# EAGLE library part CY8C4024LQI-S401 (library CY8C4024LQI-S401)
32-bit Microcontrollers - MCU PSoC4 Source: Datasheet <https://www.infineon.com/assets/row/public/documents/30/49/infineon-psoc-4000s-datasheet-datasheet-en.pdf>
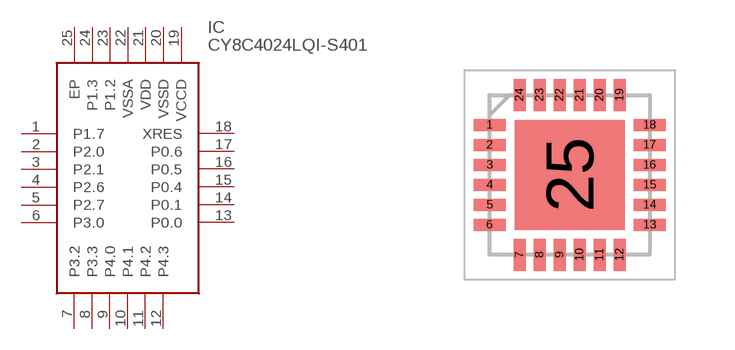
[diagram p0: symbol with the pads of QFN50P400X400X60-25N; footprint QFN50P400X400X60-25N]

Designator prefix IC

## CY8C4024LQI-S401 (Description: 32-bit Microcontrollers - MCU PSoC4; Height: 0.6mm; Manufacturer_Name: Infineon; Manufacturer_Part_Number: CY8C4024LQI-S401; Mouser_Part_Number: 727-CY8C4024LQI-S401; Mouser_Price-Stock: https://www.mouser.co.uk/ProductDetail/Infineon-Technologies/CY8C4024LQI-S401?qs=JseWDPAoSPbM3yjOOH99ZQ%3D%3D)  [QFN50P400X400X60-25N]
1  P1.7
2  P2.0
3  P2.1
4  P2.6
5  P2.7
6  P3.0
7  P3.2
8  P3.3
9  P4.0
10  P4.1
11  P4.2
12  P4.3
13  P0.0
14  P0.1
15  P0.4
16  P0.5
17  P0.6
18  XRES
19  VCCD
20  VSSD
21  VDD
22  VSSA
23  P1.2
24  P1.3
25  EP

## Footprint QFN50P400X400X60-25N (pad centres in mm)
24-pin QFN ((4 × 4 × 0.60 mm) 2.65 × 2.65 E-Pad (Sawn))
smd 0.8 x 0.3: 1 -2,1.25; 2 -2,0.75; 3 -2,0.25; 4 -2,-0.25; 5 -2,-0.75; 6 -2,-1.25; 13 2,-1.25; 14 2,-0.75; 15 2,-0.25; 16 2,0.25; 17 2,0.75; 18 2,1.25
smd 0.3 x 0.8: 7 -1.25,-2; 8 -0.75,-2; 9 -0.25,-2; 10 0.25,-2; 11 0.75,-2; 12 1.25,-2; 19 1.25,2; 20 0.75,2; 21 0.25,2; 22 -0.25,2; 23 -0.75,2; 24 -1.25,2
smd 2.75 x 2.75: 25 0,0